# EAGLE library part LT7182S (library Analog Devices)
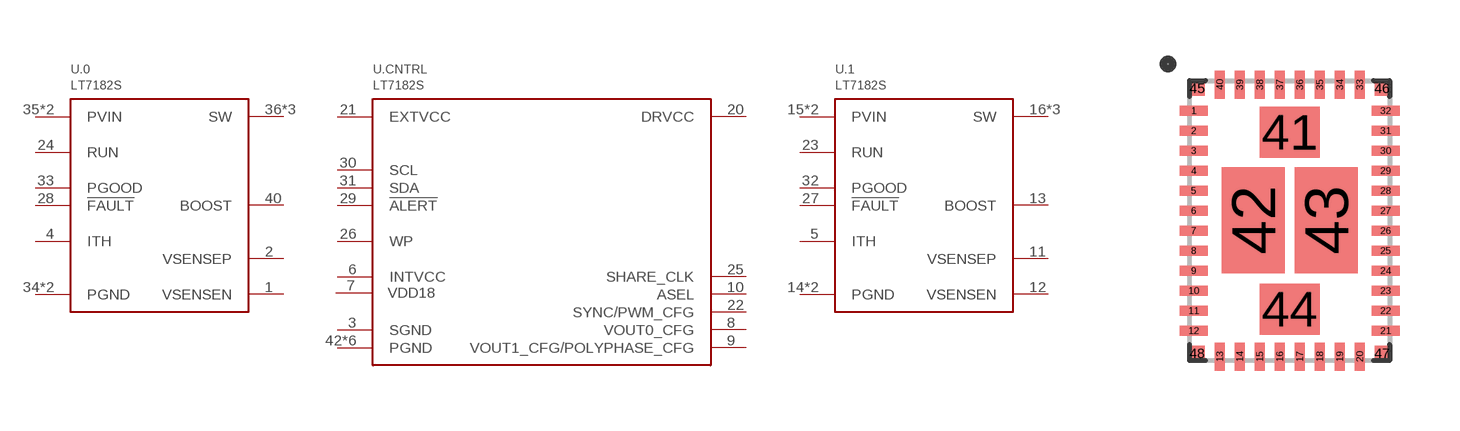
[diagram p54: symbol with the pads of LQFN40_ASYM_CORNER; footprint LQFN40_ASYM_CORNER]

Designator prefix U; gates .CNTRL=LT7182S-CNTRL .1=LT7182S-REG .0=LT7182S-REG

## LT7182S  [LQFN40_ASYM_CORNER]
1  .0:VSENSEN
2  .0:VSENSEP
3  .CNTRL:SGND
4  .0:ITH
5  .1:ITH
6  .CNTRL:INTVCC
7  .CNTRL:VDD18
8  .CNTRL:VOUT0_CFG
9  .CNTRL:VOUT1_CFG/POLYPHASE_CFG
10  .CNTRL:ASEL
11  .1:VSENSEP
12  .1:VSENSEN
13  .1:BOOST
14  .1:PGND
15  .1:PVIN
16  .1:SW
17  .1:SW
18  .1:PVIN
19  .1:PGND
20  .CNTRL:DRVCC
21  .CNTRL:EXTVCC
22  .CNTRL:SYNC/PWM_CFG
23  .1:RUN
24  .0:RUN
25  .CNTRL:SHARE_CLK
26  .CNTRL:WP
27  .1:!FAULT
28  .0:!FAULT
29  .CNTRL:!ALERT
30  .CNTRL:SCL
31  .CNTRL:SDA
32  .1:PGOOD
33  .0:PGOOD
34  .0:PGND
35  .0:PVIN
36  .0:SW
37  .0:SW
38  .0:PVIN
39  .0:PGND
40  .0:BOOST
41  .0:SW
42  .CNTRL:PGND
43  .CNTRL:PGND
44  .1:SW
45  .CNTRL:PGND
46  .CNTRL:PGND
47  .CNTRL:PGND
48  .CNTRL:PGND

## Footprint LQFN40_ASYM_CORNER (pad centres in mm)
smd 0.7 x 0.25: 1 -2.4,2.75; 2 -2.4,2.25; 3 -2.4,1.75; 4 -2.4,1.25; 5 -2.4,0.75; 6 -2.4,0.25; 7 -2.4,-0.25; 8 -2.4,-0.75; 9 -2.4,-1.25; 10 -2.4,-1.75; 11 -2.4,-2.25; 12 -2.4,-2.75; 21 2.4,-2.75; 22 2.4,-2.25; 23 2.4,-1.75; 24 2.4,-1.25; 25 2.4,-0.75; 26 2.4,-0.25; 27 2.4,0.25; 28 2.4,0.75; 29 2.4,1.25; 30 2.4,1.75; 31 2.4,2.25; 32 2.4,2.75
smd 0.25 x 0.7: 13 -1.75,-3.4; 14 -1.25,-3.4; 15 -0.75,-3.4; 16 -0.25,-3.4; 17 0.25,-3.4; 18 0.75,-3.4; 19 1.25,-3.4; 20 1.75,-3.4; 33 1.75,3.4; 34 1.25,3.4; 35 0.75,3.4; 36 0.25,3.4; 37 -0.25,3.4; 38 -0.75,3.4; 39 -1.25,3.4; 40 -1.75,3.4
smd 1.5 x 1.275: 41 0,2.212; 44 0,-2.212
smd 1.575 x 2.65: 42 -0.912,0.013; 43 0.912,0.013
smd 0.375 x 0.375: 45 -2.312,3.312; 46 2.312,3.312; 47 2.312,-3.312; 48 -2.312,-3.312